# EAGLE library part ADP5034A?Z (library ic-AD)
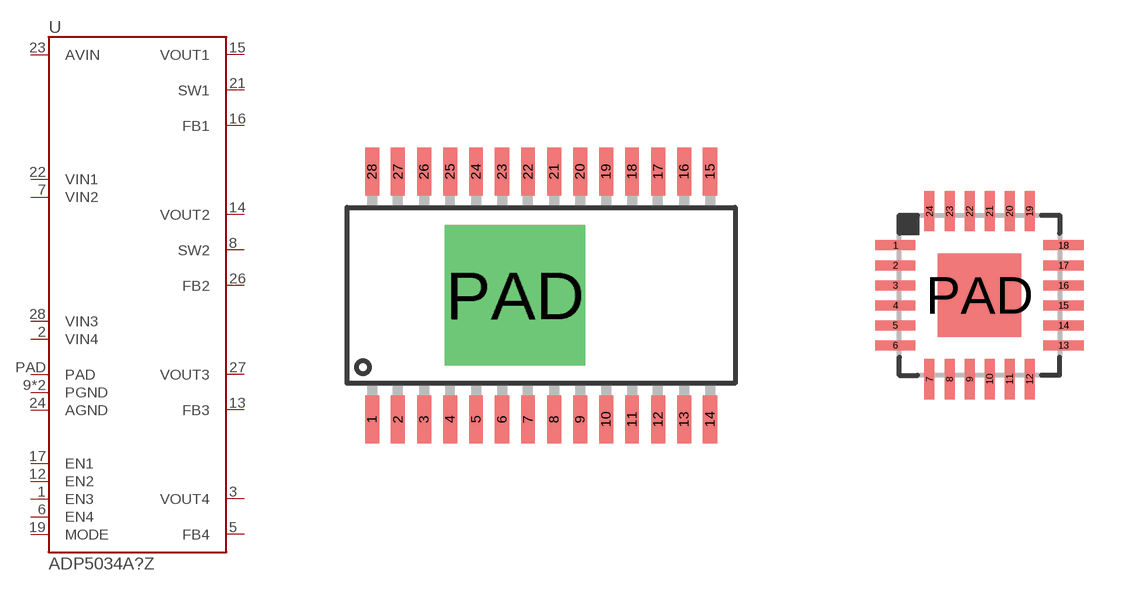
[diagram p11: symbol with the pads of TSSOP28-PAD; footprints TSSOP28-PAD, QFN24-0.5]

Designator prefix U

## ADP5034AREZ  [TSSOP28-PAD]
1  EN3
2  VIN4
3  VOUT4
5  FB4
6  EN4
7  VIN2
8  SW2
9  PGND
12  EN2
13  FB3
14  VOUT2
15  VOUT1
16  FB1
17  EN1
19  MODE
20  PGND
21  SW1
22  VIN1
23  AVIN
24  AGND
26  FB2
27  VOUT3
28  VIN3
PAD  PAD

## ADP5034ACPZ  [QFN24-0.5]
1  FB4
2  EN4
3  VIN2
4  SW2
5  PGND
7  EN2
8  FB2
9  VOUT2
10  VOUT1
11  FB1
12  EN1
13  MODE
14  PGND
15  SW1
16  VIN1
17  AVIN
18  AGND
19  FB3
20  VOUT3
21  VIN3
22  EN3
23  VIN4
24  VOUT4
PAD  PAD

## Footprint TSSOP28-PAD (pad centres in mm)
smd 0.35 x 1.2: 1 -4.225,-3.1; 2 -3.575,-3.1; 3 -2.925,-3.1; 4 -2.275,-3.1; 5 -1.625,-3.1; 6 -0.975,-3.1; 7 -0.325,-3.1; 8 0.325,-3.1; 9 0.975,-3.1; 10 1.625,-3.1; 11 2.275,-3.1; 12 2.925,-3.1; 13 3.575,-3.1; 14 4.225,-3.1; 15 4.225,3.1; 16 3.575,3.1; 17 2.925,3.1; 18 2.275,3.1; 19 1.625,3.1; 20 0.975,3.1; 21 0.325,3.1; 22 -0.325,3.1; 23 -0.975,3.1; 24 -1.625,3.1; 25 -2.275,3.1; 26 -2.925,3.1; 27 -3.575,3.1; 28 -4.225,3.1
drill 2.5 pad 3 square: PAD -0.65,0

## Footprint QFN24-0.5 (pad centres in mm)
smd 1 x 0.25: 1 -2.1,1.25; 2 -2.1,0.75; 3 -2.1,0.25; 4 -2.1,-0.25; 5 -2.1,-0.75; 6 -2.1,-1.25; 13 2.1,-1.25; 14 2.1,-0.75; 15 2.1,-0.25; 16 2.1,0.25; 17 2.1,0.75; 18 2.1,1.25
smd 0.25 x 1: 7 -1.25,-2.1; 8 -0.75,-2.1; 9 -0.25,-2.1; 10 0.25,-2.1; 11 0.75,-2.1; 12 1.25,-2.1; 19 1.25,2.1; 20 0.75,2.1; 21 0.25,2.1; 22 -0.25,2.1; 23 -0.75,2.1; 24 -1.25,2.1
smd 2.1 x 2.1: PAD 0,0